# Altium schematic symbol library Components - 24.02.24 - 22.30.SchLib: 1 symbol
Pins are listed as number, name and electrical type; pins without a type are passive.

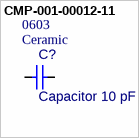
[diagram p0: symbol CMP-001-00012-11]

## CMP-001-00012-11
designator C?, comment Capacitor 10 pF +/- 10%, 50 V 0603  value 10pF  Capacitor Type: Ceramic  Case/Package: 0603  Voltage Rating: 50V  Max Operating Temperature: 125°C  Min Operating Temperature: -55°C  Pins: 2  Tolerance: 10%  Mounting Technology: SM  RoHS Compliant: True
Chip Capacitor, 10 pF, +/- 10%, 50 V, 0603 (1608 Metric)
footprint CAPC0603(1608)100_L (Chip Capacitor, Body 1.6x0.8mm, Height 1.0mm, IPC High Density)
footprint CAPC1608X90X40NL10T20 (Chip Capacitor, 2-Leads, Body 1.70x0.90mm, IPC Medium Density)
footprint CAPC1608X90X40LL10T20 (Chip Capacitor, 2-Leads, Body 1.70x0.90mm, IPC High Density)
footprint CAPC1608X90X40ML10T20 (Chip Capacitor, 2-Leads, Body 1.70x0.90mm, IPC Low Density)
pins: 1, 2